# Altium footprint library HTSSOP-28_L9.8-W4.5-P0.65-LS6.6-BL-EP.PcbLib: 1 footprints
Each footprint in its own frame and in the unit in brackets; x right, y up, seen from the top. Pads: shape width x height; smd on the part's side, far side on the other; paste and mask are expansions set on the pad; w line width, h text height; cw(c..) or ccw(c..) is an arc to the next point about the centre after c.
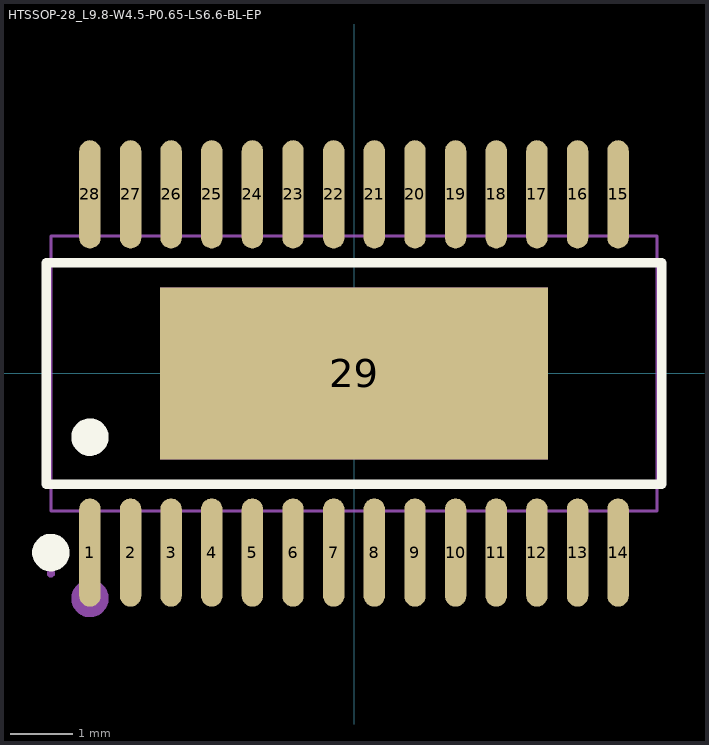
[diagram p0: the footprint, top view; thin cyan lines are the x and y axes]

## HTSSOP-28_L9.8-W4.5-P0.65-LS6.6-BL-EP [mil]
pads (29):
  oval 13.5x68.2 smd mask+2: 1(-166.3,-112.8) 2(-140.7,-112.8) 3(-115.2,-112.8) 4(-89.6,-112.8) 5(-64,-112.8) 6(-38.4,-112.8) 7(-12.8,-112.8) 8(12.8,-112.8) 9(38.4,-112.8) 10(64,-112.8) 11(89.6,-112.8) 12(115.2,-112.8) 13(140.8,-112.8) 14(166.3,-112.8) 15(166.3,112.8) 16(140.8,112.8) 17(115.2,112.8) 18(89.6,112.8) 19(64,112.8) 20(38.4,112.8) 21(12.8,112.8) 22(-12.8,112.8) 23(-38.4,112.8) 24(-64,112.8) 25(-89.6,112.8) 26(-115.2,112.8) 27(-140.7,112.8) 28(-166.3,112.8)
  rect 244.1x108.3 smd mask+2: 29(0,0)
Top Overlay:
  circle w11.8: c-190.9,-112.8 r5.9
  circle w11.8: c-166.3,-40.1 r5.9
  lines w6: -193.9,-69.7 193.9,-69.7 193.9,69.7 -193.9,69.7 -193.9,-69.7
Mechanical 6:
  circle w11.8: c-166.3,-141.7 r5.9
Mechanical 15:
  drawing of 62 lines, arcs and shapes, not listed